# Altium footprint library RF Connector.PcbLib: 2 footprints
Each footprint in its own frame and in the unit in brackets; x right, y up, seen from the top. Pads: shape width x height; smd on the part's side, far side on the other; paste and mask are expansions set on the pad; w line width, h text height; cw(c..) or ccw(c..) is an arc to the next point about the centre after c.
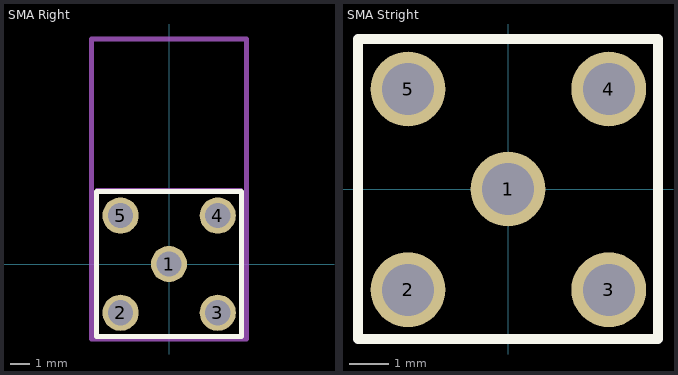
[diagram p0: the footprints below, top view; thin cyan lines are the x and y axes]

## SMA Right [mm]
pads (5):
  round 1.9 hole 1.32: 1(0,0) 2(-2.54,-2.56) 3(2.56,-2.56) 4(2.56,2.54) 5(-2.54,2.54)
Top Overlay:
  lines w0.254: -3.81,-3.81 -3.81,3.81 3.81,3.81 3.81,-3.81 -3.81,-3.81
Mechanical 1:
  lines w0.1: -3.81,3.937 3.81,3.937
  text "PCB Edge" at -1.109,4.099 h0.25
Mechanical 15:
  lines w0.254: -4.064,-3.937 4.064,-3.937 4.064,11.811 3.683,11.811 -4.064,11.811 -4.064,3.683 -4.064,-3.937
3D body "SW3dPS-sma ra pcb mount molex.STEP": height 9.67, standoff -3.82, extent -3.175,-3.175 3.175,11.633

## SMA Stright [mm]
pads (5):
  round 1.9 hole 1.32: 1(0,0) 2(-2.54,-2.56) 3(2.56,-2.56) 4(2.56,2.54) 5(-2.54,2.54)
Top Overlay:
  lines w0.254: -3.81,-3.81 3.81,-3.81 3.81,3.81 -3.81,3.81 -3.81,-3.81
3D body "SW3dPS-sma.STEP": height 9.85, standoff -3.6, extent -3.155,-3.155 3.155,3.155